# Altium schematic symbol library Resistors.SchLib: 154 symbols
Pins are listed as number, name and electrical type; pins without a type are passive.

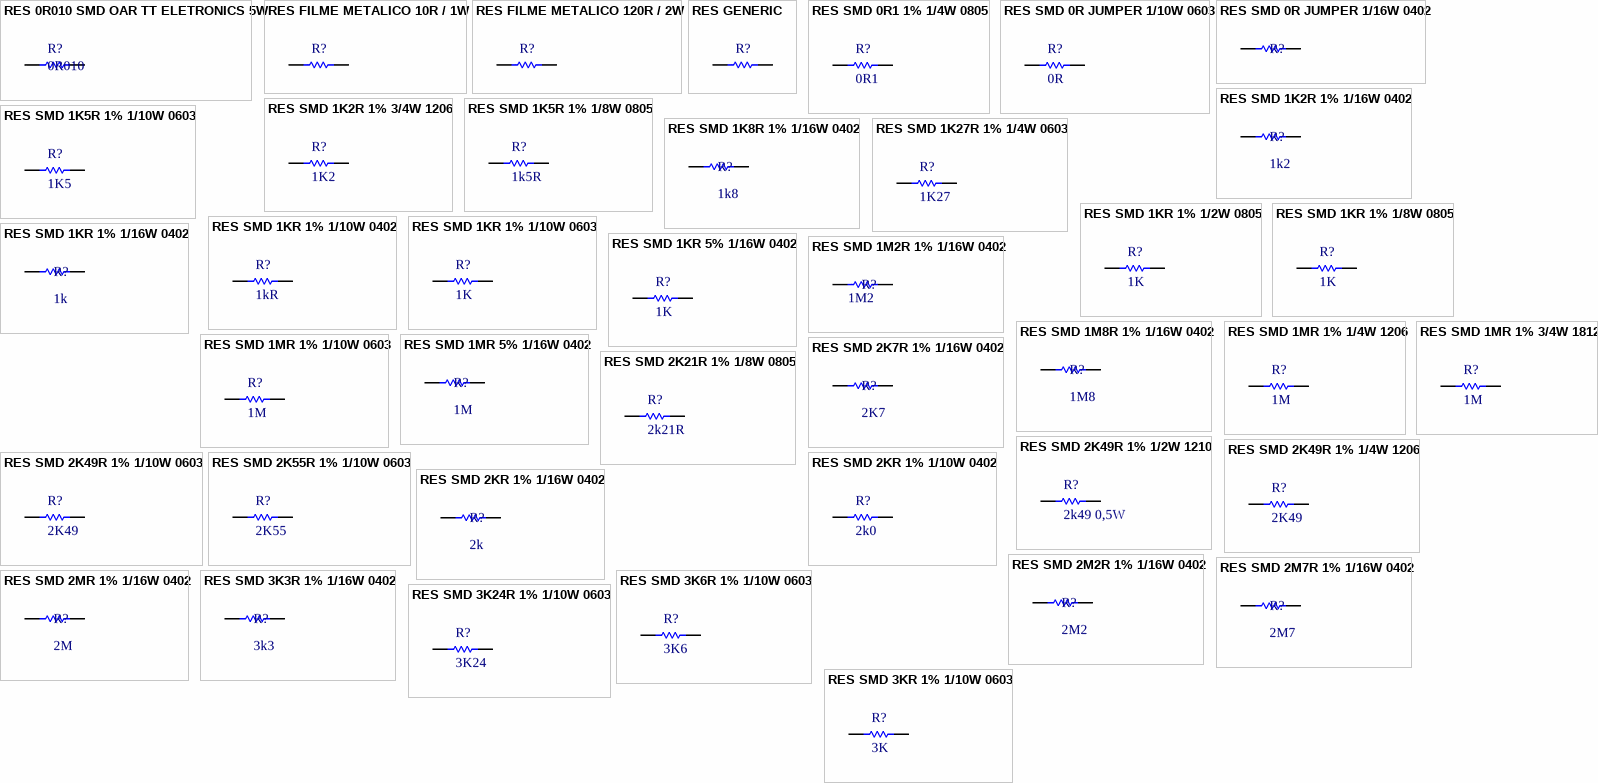
[diagram p0: symbols RES 0R010 SMD OAR TT ELETRONICS 5W to RES SMD 3KR 1% 1/10W 0603]

## RES 0R010 SMD OAR TT ELETRONICS 5W
designator R?, comment 0R010
OAR 0R010 SMD 5W 1% 40PPM SENSE RESISTOR; TT ELETRONICS: OARS-XP-R010-F-LF; MOUSER LINK: http://br.mouser.com/ProductDetail/IRC/OARSXPR010FLF/?qs=sGAEpiMZZMvrW%2ffo9sIoW%252bIzhbw9FH4L
footprint OARSXP (SMD SENSE RESISTOR TT ELETRONICS SERIES)
pins: 1, 2

## RES FILME METALICO 10R / 1W
designator R?  (value not drawn)
footprint RES-DO-41 (DO-41)
pins: 1, 2

## RES FILME METALICO 120R / 2W
designator R?  (value not drawn)
footprint RES-DO-41 (DO-41)
pins: 1, 2

## RES GENERIC
designator R?  (value not drawn)
footprint RES-DO-41 (DO-41)
pins: 1, 2

## RES SMD 0R1 1% 1/4W 0805
designator R?, comment 0R1
100 mOhms ±1% 0.25W, 1/4W Chip Resistor 0805 (2012 Metric) Automotive AEC-Q200, Current Sense Thick Film; Manufacturer 1: Panasonic Electronic Components; Manufacturer Part Number 1: ERJ-L06KF10CV; VALUE: 0R10 1%
footprint SMD_0805 (Generic 0805 SMD footprint)
pins: 1, 2

## RES SMD 0R JUMPER 1/10W 0603
designator R?, comment 0R
0 Ohms Jumper 0.1W, 1/10W Chip Resistor 0603 (1608 Metric) Automotive AEC-Q200 Thick Film; Manufacturer Part Number 1: ERJ-3GEY0R00V; Manufacturer 1: Panasonic Electronic Components
footprint SMD_0603 (General SMD 0603 footprint)
pins: 1, 2

## RES SMD 0R JUMPER 1/16W 0402
designator R?, comment 0R  (value not drawn)
0 Ohms Jumper 0.063W, 1/16W Chip Resistor 0402 (1005 Metric) Moisture Resistant Thick Film; Part Number 1: RC0402JR-070RL; Manufacturer 1: Yageo; Value: 0R
footprint SMD_0402
pins: 1, 2

## RES SMD 1K2R 1% 1/16W 0402
designator R?, comment 1k2
1.2 kOhms ±1% 0.063W, 1/16W Chip Resistor 0402 (1005 Metric) Moisture Resistant Thick Film; Part Number 1: RC0402FR-071K2L; Manufacturer 1: Yageo; Value: 1k2
footprint SMD_0402
pins: 1, 2

## RES SMD 1K2R 1% 3/4W 1206
designator R?, comment 1K2
1.2 kOhms ±1% 0.75W, 3/4W Chip Resistor 1206 (3216 Metric) Automotive AEC-Q200, Pulse Withstanding Thick Film; Manufacturer 1: Vishay Dale; Manufacturer Part Number 1: CRCW12061K20FKEAHP
footprint SMD_1210 (General SMD 1210 footprint)
pins: 1, 2

## RES SMD 1K5R 1% 1/8W 0805
designator R?, comment 1k5R
1.5 kOhms ±1% 0.125W, 1/8W Chip Resistor 0805 (2012 Metric) Automotive AEC-Q200 Thick Film; Manufacturer 1: Stackpole Electronics Inc; Manufacturer Part Number 1: RMCF0805FT1K50
footprint SMD_0805 (Generic 0805 SMD footprint)
pins: 1, 2

## RES SMD 1K5R 1% 1/10W 0603
designator R?, comment 1K5
1.5 kOhms ±1% 0.1W, 1/10W Chip Resistor 0603 (1608 Metric)  Thick Film; Part Number 1: CRCW06031K50FKEAC; Manufacturer 1: Vishay Dale
footprint SMD_0603 (General SMD 0603 footprint)
pins: 1, 2

## RES SMD 1K8R 1% 1/16W 0402
designator R?, comment 1k8
1.8 kOhms ±1% 0.063W, 1/16W Chip Resistor 0402 (1005 Metric) Moisture Resistant Thick Film; Part Number 1: RC0402FR-071K8L; Manufacturer 1: Yageo; Value: 1k8
footprint SMD_0402
pins: 1, 2

## RES SMD 1K27R 1% 1/4W 0603
designator R?, comment 1K27
1.27 kOhms ±1% 0.25W, 1/4W Chip Resistor 0603 (1608 Metric) Automotive AEC-Q200, Pulse Withstanding Thick Film; Manufacturer 1: Vishay Dale; Part Number 1: CRCW06031K27FKEAHP
footprint SMD_0603 (General SMD 0603 footprint)
pins: 1, 2

## RES SMD 1KR 1% 1/2W 0805
designator R?, comment 1K
1 kOhms ±1% 0.5W, 1/2W Chip Resistor 0805 (2012 Metric) Automotive AEC-Q200, Pulse Withstanding Thick Film; Manufacturer 1: Panasonic Electronic Components; Part Number 1: ERJ-P6WF1001V; VALUE: 1K
footprint SMD_0805 (Generic 0805 SMD footprint)
pins: 1, 2

## RES SMD 1KR 1% 1/8W 0805
designator R?, comment 1K
1 kOhms ±1% 0.125W, 1/8W Chip Resistor 0805 (2012 Metric)  Thick Film; Part Number 1: CRCW08051K00FKEAC; Manufacturer 1: Vishay Dale
footprint SMD_0805 (Generic 0805 SMD footprint)
pins: 1, 2

## RES SMD 1KR 1% 1/10W 0402
designator R?, comment 1kR
1k Ohm ±5% 0.063W, 1/16W Chip Resistor 0402 (1005 Metric) Thick Film; Manufacturer 1: Panasonic Electronic Components; Part Number 1: ERJ-2RKF1001X; VALUE: 1k; Supplier 1: Digi-Key; Supplier 2: Digi-Key; Supplier 3: Digi-Key; Supplier 4: Future Electronics; Supplier 5: Future Electronics; Supplier 6: Farnell; Supplier 7: Farnell; Supplier 8: Farnell; Supplier 9: Mouser; Supplier 10: Arrow; Supplier Part Number 9: 667-ERJ-2RKF1001X; Supplier Part Number 8: 2982313; Supplier Part Number 7: 2302638; Supplier Part Number 6: 2397185; Supplier Part Number 5: ERJ-2RKF1001X-CUTT; Supplier Part Number 4: ERJ-2RKF1001X-REEL; Supplier Part Number 3: P1.00KLTR-ND; Supplier Part Number 2: P1.00KLDKR-ND; Supplier Part Number 10: ERJ-2RKF1001X; Supplier Part Number 1: P1.00KLCT-ND
footprint SMD_0402
pins: 1, 2

## RES SMD 1KR 1% 1/10W 0603
designator R?, comment 1K
1 kOhms ±1% 0.1W, 1/10W Chip Resistor 0603 (1608 Metric) Automotive AEC-Q200 Thick Film; Manufacturer 1: Panasonic Electronic Components; Part Number 1: ERJ-3EKF1001V; VALUE: 1K 1%
footprint SMD_0603 (General SMD 0603 footprint)
pins: 1, 2

## RES SMD 1KR 1% 1/16W 0402
designator R?, comment 1k
1 kOhms ±1% 0.063W, 1/16W Chip Resistor 0402 (1005 Metric) Moisture Resistant Thick Film; Part Number 1: RC0402FR-071KL; Manufacturer 1: Yageo; Value: 1k
footprint SMD_0402
pins: 1, 2

## RES SMD 1KR 5% 1/16W 0402
designator R?, comment 1K
1k Ohm ±5% 0.063W, 1/16W Chip Resistor 0402 (1005 Metric) Thick Film; Part Number 1: RC0402JR-071KL; Manufacturer 1: Yageo
footprint SMD_0402
pins: 1, 2

## RES SMD 1M2R 1% 1/16W 0402
designator R?, comment 1M2
1.2 MOhms ±1% 0.063W, 1/16W Chip Resistor 0402 (1005 Metric) Automotive AEC-Q200 Thick Film; Part Number 1: RMCF0402FT1M20; Manufacturer 1: Stackpole Electronics Inc; Value: 1M2
footprint SMD_0402
pins: 1, 2

## RES SMD 1M8R 1% 1/16W 0402
designator R?, comment 1M8
1.8 MOhms ±1% 0.063W, 1/16W Chip Resistor 0402 (1005 Metric) Moisture Resistant Thick Film; Part Number 1: RMCF0402FT1M80; Manufacturer 1: Samsung Electro-Mechanics; Value: 1M8
footprint SMD_0402
pins: 1, 2

## RES SMD 1MR 1% 1/4W 1206
designator R?, comment 1M
1 MOhms ±1% 0.25W, 1/4W Chip Resistor 1206 (3216 Metric) Automotive AEC-Q200 Thick Film; Manufacturer 1: Panasonic Electronic Components; Part Number 1: ERJ-8ENF1004V; VALUE: 1M 1%
footprint SMD_1206 (General SMD 1206 footprint)
pins: 1, 2

## RES SMD 1MR 1% 1/10W 0603
designator R?, comment 1M
1 MOhms ±1% 0.1W, 1/10W Chip Resistor 0603 (1608 Metric) Automotive AEC-Q200 Thick Film; Manufacturer 1: Panasonic Electronic Components; Part Number 1: ERJ-3EKF1004V; VALUE: 1M
footprint SMD_0603 (General SMD 0603 footprint)
pins: 1, 2

## RES SMD 1MR 1% 3/4W 1812
designator R?, comment 1M
1 MOhms ±0.5% 0.75W, 3/4W Chip Resistor 1812 (4532 Metric) Anti-Sulfur, Automotive AEC-Q200 Thick Film; Manufacturer 1: Panasonic Electronic Components; Part Number 1: ERJ-U12D1004U; VALUE: 1M 1%
footprint SMD_1812 (General SMD 1812 footprint)
pins: 1, 2

## RES SMD 1MR 5% 1/16W 0402
designator R?, comment 1M
1 MOhms ±5% 0.063W, 1/16W Chip Resistor 0402 (1005 Metric) Moisture Resistant Thick Film; Part Number 1: RC0402JR-071ML; Manufacturer 1: Samsung Electro-Mechanics; Value: 1M
footprint SMD_0402
pins: 1, 2

## RES SMD 2K7R 1% 1/16W 0402
designator R?, comment 2K7
2.7 kOhms ±1% 0.063W, 1/16W Chip Resistor 0402 (1005 Metric) Moisture Resistant Thick Film; Part Number 1: RC0402FR-072K7L; Manufacturer 1: Yageo; Value: 2K7
footprint SMD_0402
pins: 1, 2

## RES SMD 2K21R 1% 1/8W 0805
designator R?, comment 2k21R
2.21k Ohm ±1% 0.125W, 1/8W Chip Resistor 0805 (2012 Metric) Moisture Resistant Thick Film; Manufacturer 1: Stackpole Electronics Inc; Part Number 1: RMCF0805FT2K21
footprint SMD_0805 (Generic 0805 SMD footprint)
pins: 1, 2

## RES SMD 2K49R 1% 1/2W 1210
designator R?, comment 2k49 0,5W
2.49 kOhms ±1% 0.5W, 1/2W Chip Resistor 1210 (3225 Metric) Automotive AEC-Q200, Pulse Withstanding Thick Film; Manufacturer 1: Panasonic Electronic Components; Part Number 1: ERJ-P14F2491U
footprint SMD_1210 (General SMD 1210 footprint)
pins: 1, 2

## RES SMD 2K49R 1% 1/4W 1206
designator R?, comment 2K49
2.49 kOhms ±1% 0.25W, 1/4W Chip Resistor 1206 (3216 Metric) Automotive AEC-Q200, High Voltage Thick Film; Manufacturer 1: Rohm Semiconductor; Part Number 1: KTR18EZPF2491; VALUE: 2K49
pins: 1, 2

## RES SMD 2K49R 1% 1/10W 0603
designator R?, comment 2K49
2.49 kOhms ±1% 0.1W, 1/10W Chip Resistor 0603 (1608 Metric)  Thick Film; Manufacturer 1: Vishay Dale; Part Number 1: CRCW06032K49FKEAC; VALUE: 2K49 1%
footprint SMD_0603 (General SMD 0603 footprint)
pins: 1, 2

## RES SMD 2K55R 1% 1/10W 0603
designator R?, comment 2K55
2.55 kOhms ±1% 0.1W, 1/10W Chip Resistor 0603 (1608 Metric) Automotive AEC-Q200 Thick Film; Manufacturer 1: Stackpole Electronics Inc; Part Number 1: RMCF0603FT2K55; VALUE: 2K55 1%
footprint SMD_0603 (General SMD 0603 footprint)
pins: 1, 2

## RES SMD 2KR 1% 1/10W 0402
designator R?, comment 2k0
2 kOhms ±1% 0.1W, 1/10W Chip Resistor 0402 (1005 Metric) Automotive AEC-Q200 Thick Film; Manufacturer 1: Panasonic Electronic Components; Part Number 1: ERJ-2RKF2001X; VALUE: 2k0; Supplier 1: Digi-Key; Supplier 2: RSComponents; Supplier 3: Digi-Key; Supplier 4: Digi-Key; Supplier 5: Digi-Key; Supplier 6: RSComponents; Supplier 7: Digi-Key; Supplier 8: Digi-Key; Supplier 9: Digi-Key; Supplier Part Number 1: P2.00KLCT-ND; Supplier Part Number 2: 7325365; Supplier Part Number 3: P2.00KLDKR-ND; Supplier Part Number 4: 749-1560-1-ND; Supplier Part Number 5: P2.00KLTR-ND; Supplier Part Number 6: 732-5365; Supplier Part Number 7: 749-1560-2-ND; Supplier Part Number 8: ERJ-S02F2001X-ND; Supplier Part Number 9: 749-1560-6-ND
footprint SMD_0402
pins: 1, 2

## RES SMD 2KR 1% 1/16W 0402
designator R?, comment 2k
2 kOhms ±1% 0.063W, 1/16W Chip Resistor 0402 (1005 Metric) Moisture Resistant Thick Film; Part Number 1: RC1005F202CS; Manufacturer 1: Samsung Electro-Mechanics; Value: 2k
footprint SMD_0402
pins: 1, 2

## RES SMD 2M2R 1% 1/16W 0402
designator R?, comment 2M2
2.2 MOhms ±1% 0.063W, 1/16W Chip Resistor 0402 (1005 Metric) Moisture Resistant Thick Film; Part Number 1: RC1005F225CS; Manufacturer 1: Samsung Electro-Mechanics; Value: 2M2
footprint SMD_0402
pins: 1, 2

## RES SMD 2M7R 1% 1/16W 0402
designator R?, comment 2M7
2.7 MOhms ±1% 0.063W, 1/16W Chip Resistor 0402 (1005 Metric) Automotive AEC-Q200 Thick Film; Part Number 1: RMCF0402FT2M70; Manufacturer 1: Stackpole Electronics Inc; Value: 2M7
footprint SMD_0402
pins: 1, 2

## RES SMD 2MR 1% 1/16W 0402
designator R?, comment 2M
2 MOhms ±1% 0.063W, 1/16W Chip Resistor 0402 (1005 Metric)  Thick Film; Part Number 1: CRCW04022M00FKEDC; Manufacturer 1: Vishay Dale; Value: 2M
footprint SMD_0402
pins: 1, 2

## RES SMD 3K3R 1% 1/16W 0402
designator R?, comment 3k3
3.3 kOhms ±1% 0.063W, 1/16W Chip Resistor 0402 (1005 Metric) Moisture Resistant Thick Film; Part Number 1: RC0402FR-073K3L; Manufacturer 1: Yageo; Value: 3k3
footprint SMD_0402
pins: 1, 2

## RES SMD 3K6R 1% 1/10W 0603
designator R?, comment 3K6
3.6 kOhms ±1% 0.1W, 1/10W Chip Resistor 0603 (1608 Metric) Automotive AEC-Q200 Thick Film; Part Number 1: ERJ-3EKF3601V; Manufacturer 1: Panasonic Electronic Components
footprint SMD_0603 (General SMD 0603 footprint)
pins: 1, 2

## RES SMD 3K24R 1% 1/10W 0603
designator R?, comment 3K24
3.24 kOhms ±1% 0.1W, 1/10W Chip Resistor 0603 (1608 Metric) Automotive AEC-Q200 Thick Film; Manufacturer 1: Vishay Dale; Part Number 1: CRCW06033K24FKEA
footprint SMD_0603 (General SMD 0603 footprint)
pins: 1, 2

## RES SMD 3KR 1% 1/10W 0603
designator R?, comment 3K
3 kOhms ±1% 0.1W, 1/10W Chip Resistor 0603 (1608 Metric)  Thick Film; Part Number 1: CRCW06033K00FKEAC; Manufacturer 1: Vishay Dale; VALUE: 3K0R 1%
footprint SMD_0603 (General SMD 0603 footprint)
pins: 1, 2

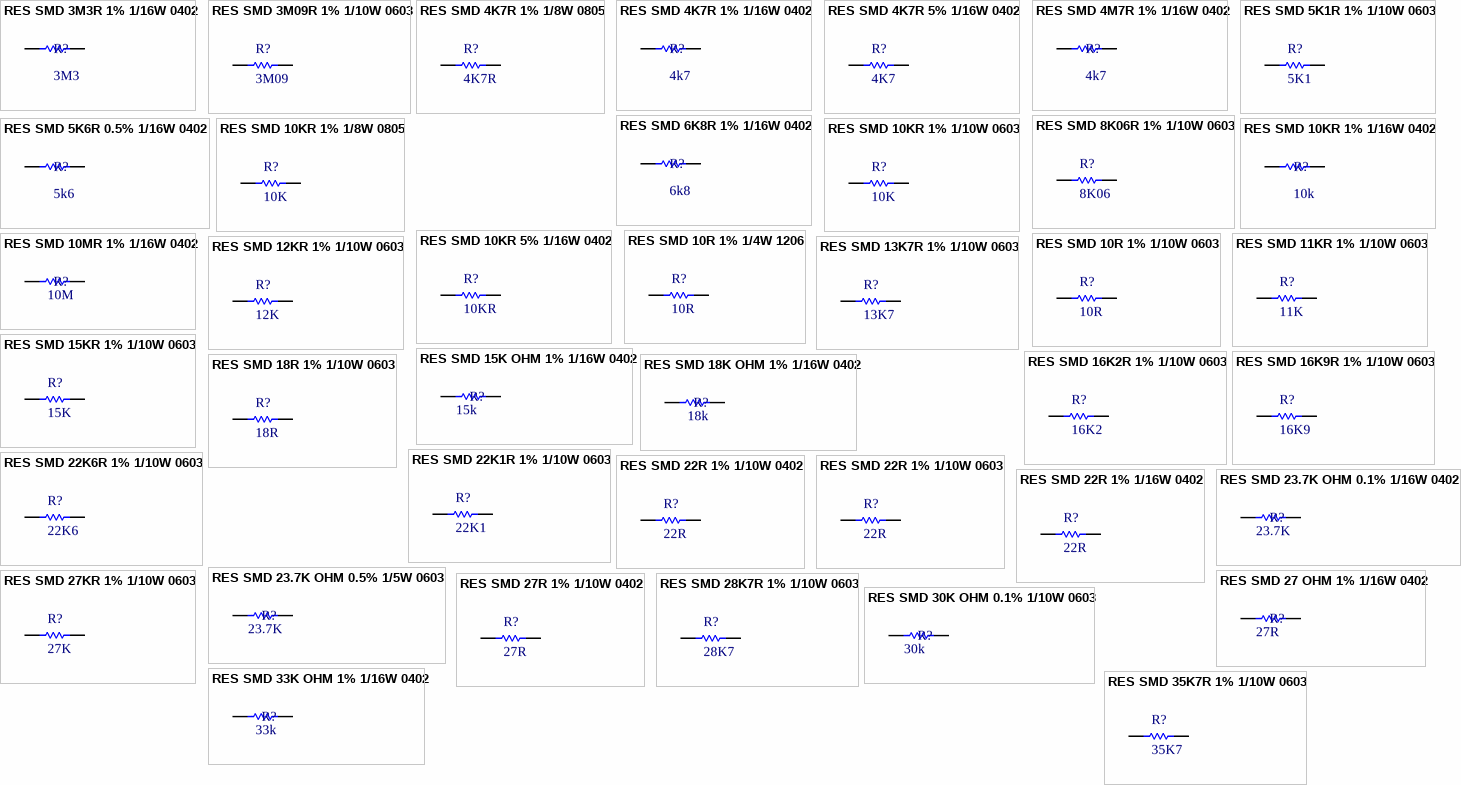
[diagram p1: symbols RES SMD 3M3R 1% 1/16W 0402 to RES SMD 35K7R 1% 1/10W 0603]

## RES SMD 3M3R 1% 1/16W 0402
designator R?, comment 3M3
3.3 MOhms ±1% 0.063W, 1/16W Chip Resistor 0402 (1005 Metric) Moisture Resistant Thick Film; Part Number 1: RC0402FR-073M3L; Manufacturer 1: Yageo; Value: 3M3
footprint SMD_0402
pins: 1, 2

## RES SMD 3M09R 1% 1/10W 0603
designator R?, comment 3M09
3.09 MOhms ±1% 0.1W, 1/10W Chip Resistor 0603 (1608 Metric) Automotive AEC-Q200 Thick Film; Part Number 1: RMCF0603FT3M09; Manufacturer 1: Stackpole Electronics Inc; VALUE: 3.09M
footprint SMD_0603 (General SMD 0603 footprint)
pins: 1, 2

## RES SMD 4K7R 1% 1/8W 0805
designator R?, comment 4K7R
4.7 kOhms ±1% 0.125W, 1/8W Chip Resistor 0805 (2012 Metric) Moisture Resistant Thick Film; Manufacturer 1: Yageo; Part Number 1: RC0805FR-074K7P
footprint SMD_0805 (Generic 0805 SMD footprint)
pins: 1, 2

## RES SMD 4K7R 1% 1/16W 0402
designator R?, comment 4k7
4.7 kOhms ±1% 0.063W, 1/16W Chip Resistor 0402 (1005 Metric) Moisture Resistant Thick Film; Part Number 1: RC1005F472CS; Manufacturer 1: Samsung Electro-Mechanics; Value: 4k7
footprint SMD_0402
pins: 1, 2

## RES SMD 4K7R 5% 1/16W 0402
designator R?, comment 4K7
4.7 kOhms ±5% 0.063W, 1/16W Chip Resistor 0402 (1005 Metric) Moisture Resistant Thick Film; Manufacturer 1: Yageo; Part Number 1: RC0402JR-074K7L
footprint SMD_0402
pins: 1, 2

## RES SMD 4M7R 1% 1/16W 0402
designator R?, comment 4k7
4.7 MOhms ±1% 0.063W, 1/16W Chip Resistor 0402 (1005 Metric) Moisture Resistant Thick Film; Part Number 1: RC1005F475CS; Manufacturer 1: Samsung Electro-Mechanics; Value: 4k7
footprint SMD_0402
pins: 1, 2

## RES SMD 5K1R 1% 1/10W 0603
designator R?, comment 5K1
5.1 kOhms ±1% 0.1W, 1/10W Chip Resistor 0603 (1608 Metric) Automotive AEC-Q200 Thick Film; Manufacturer 1: Stackpole Electronics Inc; Part Number 1: RMCF0603FT5K10; VALUE: 5k1
footprint SMD_0603 (General SMD 0603 footprint)
pins: 1, 2

## RES SMD 5K6R 0.5% 1/16W 0402
designator R?, comment 5k6
5.6 kOhms ±0.5% 0.063W, 1/16W Chip Resistor 0402 (1005 Metric) Automotive AEC-Q200 Thin Film; Part Number 1: ERA-2AED562X; Manufacturer 1: Panasonic Electronic Components; Value: 5k6
footprint SMD_0402
pins: 1, 2

## RES SMD 6K8R 1% 1/16W 0402
designator R?, comment 6k8
6.8 kOhms ±1% 0.063W, 1/16W Chip Resistor 0402 (1005 Metric) Moisture Resistant Thick Film; Part Number 1: RC0402FR-076K8L; Manufacturer 1: Yageo; Value: 6k8
footprint SMD_0402
pins: 1, 2

## RES SMD 8K06R 1% 1/10W 0603
designator R?, comment 8K06
8.06 kOhms ±1% 0.1W, 1/10W Chip Resistor 0603 (1608 Metric) Automotive AEC-Q200 Thick Film; Part Number 1: CRCW06038K06FKEA; Manufacturer 1: Vishay Dale; VALUE: 8K06 1%
footprint SMD_0603 (General SMD 0603 footprint)
pins: 1, 2

## RES SMD 10KR 1% 1/8W 0805
designator R?, comment 10K
10 kOhms ±1% 0.125W, 1/8W Chip Resistor 0805 (2012 Metric) Automotive AEC-Q200 Thick Film; Manufacturer Part Number 1: CRCW080510K0FKEA; Manufacturer 1: Vishay Dale
footprint SMD_0805 (Generic 0805 SMD footprint)
pins: 1, 2

## RES SMD 10KR 1% 1/10W 0603
designator R?, comment 10K
10 kOhms ±1% 0.1W, 1/10W Chip Resistor 0603 (1608 Metric) Automotive AEC-Q200 Thick Film; Part Number 1: ERJ-3EKF1002V; Manufacturer 1: Panasonic Electronic Components; VALUE: 10K
footprint SMD_0603 (General SMD 0603 footprint)
pins: 1, 2

## RES SMD 10KR 1% 1/16W 0402
designator R?, comment 10k
10 kOhms ±1% 0.063W, 1/16W Chip Resistor 0402 (1005 Metric) Automotive AEC-Q200 Thick Film; Part Number 1: RMCF0402FT10K0; Manufacturer 1: Stackpole Electronics Inc; Value: 10k
footprint SMD_0402
pins: 1, 2

## RES SMD 10KR 5% 1/16W 0402
designator R?, comment 10KR
10 kOhms ±5% 0.063W, 1/16W Chip Resistor 0402 (1005 Metric) Moisture Resistant Thick Film; Manufacturer 1: Yageo; Part Number 1: RC0402JR-0710KL; VALUE: 10K
footprint SMD_0402
pins: 1, 2

## RES SMD 10MR 1% 1/16W 0402
designator R?, comment 10M
10 MOhms ±1% 0.063W, 1/16W Chip Resistor 0402 (1005 Metric) Moisture Resistant Thick Film; Part Number 1: RC0402FR-0710ML; Manufacturer 1: Yageo; Value: 10M
footprint SMD_0402
pins: 1, 2

## RES SMD 10R 1% 1/4W 1206
designator R?, comment 10R
10 Ohms ±1% 0.25W, 1/4W Chip Resistor 1206 (3216 Metric) Automotive AEC-Q200 Thick Film; Manufacturer 1: Stackpole Electronics Inc; Manufacturer Part Number 1: RMCF1206FT10R0; VALUE: 10R
footprint SMD_1206 (General SMD 1206 footprint)
pins: 1, 2

## RES SMD 10R 1% 1/10W 0603
designator R?, comment 10R
10 Ohms ±1% 0.1W, 1/10W Chip Resistor 0603 (1608 Metric) Automotive AEC-Q200 Thick Film; Manufacturer 1: Panasonic Electronic Components; Manufacturer Part Number 1: ERJ-3EKF10R0V; VALUE: 10R 1%
footprint SMD_0603 (General SMD 0603 footprint)
pins: 1, 2

## RES SMD 11KR 1% 1/10W 0603
designator R?, comment 11K
11 kOhms ±1% 0.1W, 1/10W Chip Resistor 0603 (1608 Metric) Automotive AEC-Q200 Thick Film; Manufacturer 1: Vishay Dale; Manufacturer Part Number 1: CRCW060311K0FKEA
footprint SMD_0603 (General SMD 0603 footprint)
pins: 1, 2

## RES SMD 12KR 1% 1/10W 0603
designator R?, comment 12K
12 kOhms ±1% 0.1W, 1/10W Chip Resistor 0603 (1608 Metric) Automotive AEC-Q200 Thick Film; Manufacturer Part Number 1: ERJ-3EKF1202V; Manufacturer 1: Panasonic Electronic Components
footprint SMD_0603 (General SMD 0603 footprint)
pins: 1, 2

## RES SMD 13K7R 1% 1/10W 0603
designator R?, comment 13K7
13.7 kOhms ±1% 0.1W, 1/10W Chip Resistor 0603 (1608 Metric) Automotive AEC-Q200 Thick Film; Manufacturer 1: Stackpole Electronics Inc; Manufacturer Part Number 1: RMCF0603FT13K7
footprint SMD_0603 (General SMD 0603 footprint)
pins: 1, 2

## RES SMD 15K OHM 1% 1/16W 0402
designator R?, comment value 15k  (hidden comment: 15kR)
PartNumber1: RC0402FR-0715KL
footprint SMD_0402
pins: 1, 2

## RES SMD 15KR 1% 1/10W 0603
designator R?, comment 15K
15 kOhms ±1% 0.1W, 1/10W Chip Resistor 0603 (1608 Metric) Automotive AEC-Q200 Thick Film; Manufacturer 1: Panasonic Electronic Components; Manufacturer Part Number 1: ERJ-3EKF1502V
footprint SMD_0603 (General SMD 0603 footprint)
pins: 1, 2

## RES SMD 16K2R 1% 1/10W 0603
designator R?, comment 16K2
16.2 kOhms ±1% 0.1W, 1/10W Chip Resistor 0603 (1608 Metric) Automotive AEC-Q200 Thick Film; Manufacturer 1: Vishay Dale; Manufacturer Part Number 1: CRCW060316K2FKEA; VALUE: 16K2 1%
footprint SMD_0603 (General SMD 0603 footprint)
pins: 1, 2

## RES SMD 16K9R 1% 1/10W 0603
designator R?, comment 16K9
16.9 kOhms ±1% 0.1W, 1/10W Chip Resistor 0603 (1608 Metric) Automotive AEC-Q200 Thick Film; Manufacturer Part Number 1: ERJ-3EKF1692V; Manufacturer 1: Panasonic Electronic Components; VALUE: 16K9 1%
footprint SMD_0603 (General SMD 0603 footprint)
pins: 1, 2

## RES SMD 18K OHM 1% 1/16W 0402
designator R?, comment 18k
PartNumber1: RC0402FR-0718KL; Value: 18k
footprint SMD_0402
pins: 1, 2

## RES SMD 18R 1% 1/10W 0603
designator R?, comment 18R
18 Ohms ±1% 0.1W, 1/10W Chip Resistor 0603 (1608 Metric) Moisture Resistant Thick Film; Manufacturer Part Number 1: RC0603FR-0718RL; Manufacturer 1: Yageo
footprint SMD_0603 (General SMD 0603 footprint)
pins: 1, 2

## RES SMD 22K1R 1% 1/10W 0603
designator R?, comment 22K1
22.1 kOhms ±1% 0.1W, 1/10W Chip Resistor 0603 (1608 Metric) Automotive AEC-Q200 Thick Film; Manufacturer Part Number 1: CRCW060322K1FKEA; Manufacturer 1: Vishay Dale
footprint SMD_0603 (General SMD 0603 footprint)
pins: 1, 2

## RES SMD 22K6R 1% 1/10W 0603
designator R?, comment 22K6
22.6 kOhms ±1% 0.1W, 1/10W Chip Resistor 0603 (1608 Metric) Automotive AEC-Q200 Thick Film; Manufacturer 1: Vishay Dale; VISHAY: CRCW060322K6FKEA; Manufacturer Part Number 1: CRCW060322K6FKEA
footprint SMD_0603 (General SMD 0603 footprint)
pins: 1, 2

## RES SMD 22R 1% 1/10W 0402
designator R?, comment 22R
22 Ohm ±1% 0.1W, 1/10W Chip Resistor 0402 (1005 Metric) Automotive AEC-Q200 Thick Film; Manufacturer 1: Panasonic Electronic Components; Manufacturer Part Number 1: ERJ-2RKF22R0X
footprint SMD_0402
pins: 1, 2

## RES SMD 22R 1% 1/10W 0603
designator R?, comment 22R
22 Ohms ±1% 0.1W, 1/10W Chip Resistor 0603 (1608 Metric) Automotive AEC-Q200 Thick Film; Manufacturer Part Number 1: ERJ-3EKF22R0V; Manufacturer 1: Panasonic Electronic Components
footprint SMD_0603 (General SMD 0603 footprint)
pins: 1, 2

## RES SMD 22R 1% 1/16W 0402
designator R?, comment 22R
22 Ohm ±1% 0.063W, 1/16W Chip Resistor 0402 (1005 Metric) Moisture Resistant Thick Film; Manufacturer 1: Bourns Inc.; Manufacturer Part Number 1: CR0402-FX-22R0GLF; VALUE: 22R
footprint SMD_0402
pins: 1, 2

## RES SMD 23.7K OHM 0.1% 1/16W 0402
designator R?, comment 23.7K
23.7 kOhms ±0.1% 0.063W, 1/16W Chip Resistor 0402 (1005 Metric)  Thin Film; PartNumber1: RN73C1E23K7BTD; Value: 23.7K
footprint SMD_0402
pins: 1, 2

## RES SMD 23.7K OHM 0.5% 1/5W 0603
designator R?, comment 23.7K
23.7 kOhms ±0.5% 0.2W, 1/5W Chip Resistor 0603 (1608 Metric) Automotive AEC-Q200, Pulse Withstanding Thick Film; PartNumber1: ERJ-PB3D2372V; Value: 23.7K
footprint smd_0603 (General SMD 0603 footprint)
pins: 1, 2

## RES SMD 27 OHM 1% 1/16W 0402
designator R?  value 27R
PartNumber1: RC0402FR-0727RL
footprint SMD_0402
pins: 1, 2

## RES SMD 27KR 1% 1/10W 0603
designator R?, comment 27K
27 kOhms ±1% 0.1W, 1/10W Chip Resistor 0603 (1608 Metric) Automotive AEC-Q200 Thick Film; Manufacturer Part Number 1: ERJ-3EKF2702V; Manufacturer 1: Panasonic Electronic Components; VALUE: 27K 1%
footprint SMD_0603 (General SMD 0603 footprint)
pins: 1, 2

## RES SMD 27R 1% 1/10W 0402
designator R?, comment 27R
27 Ohm ±1% 0.1W, 1/10W Chip Resistor 0402 (1005 Metric) Automotive AEC-Q200 Thick Film; Manufacturer 1: Panasonic Electronic Components; Manufacturer Part Number 1: ERJ-2RKF27R0X; VALUE: 27R
footprint SMD_0402
pins: 1, 2

## RES SMD 28K7R 1% 1/10W 0603
designator R?, comment 28K7
28.7 kOhms ±1% 0.1W, 1/10W Chip Resistor 0603 (1608 Metric) Automotive AEC-Q200 Thick Film; Manufacturer 1: Vishay Dale; Manufacturer Part Number 1: CRCW060328K7FKEA
footprint SMD_0603 (General SMD 0603 footprint)
pins: 1, 2

## RES SMD 30K OHM 0.1% 1/10W 0603
designator R?, comment value 30k  (hidden comment: 30kR)
PartNumber1: ERA-3AEB303V
footprint smd_0603 (General SMD 0603 footprint)
pins: 1, 2

## RES SMD 33K OHM 1% 1/16W 0402
designator R?, comment 33k
PartNumber1: RC0402FR-0733KL; Value: 33k
footprint SMD_0402
pins: 1, 2

## RES SMD 35K7R 1% 1/10W 0603
designator R?, comment 35K7
35.7 kOhms ±1% 0.1W, 1/10W Chip Resistor 0603 (1608 Metric) Automotive AEC-Q200 Thick Film; Manufacturer Part Number 1: ERJ-3EKF3572V; Manufacturer 1: Panasonic Electronic Components; VALUE: 35K7 1%
footprint SMD_0603 (General SMD 0603 footprint)
pins: 1, 2

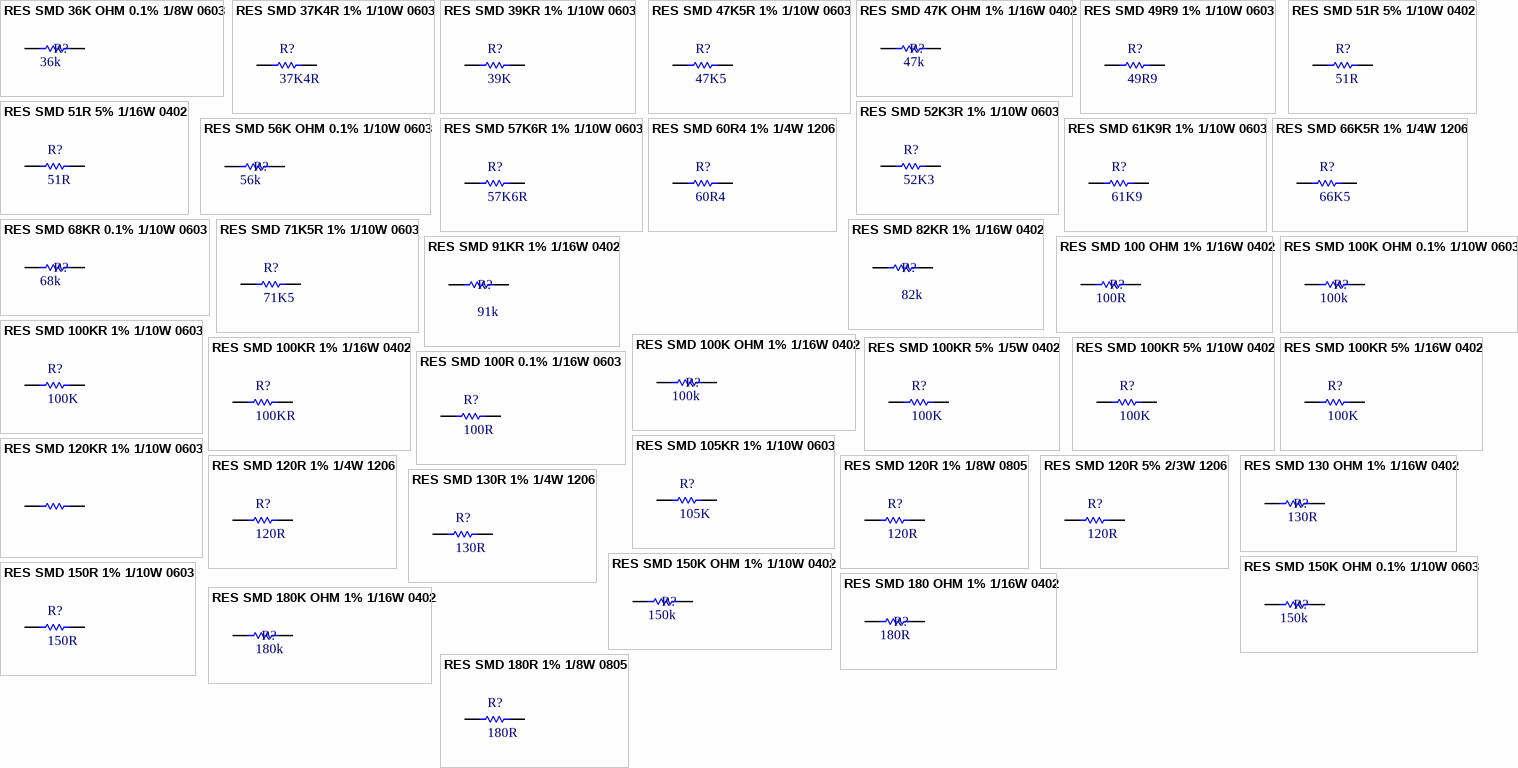
[diagram p2: symbols RES SMD 36K OHM 0.1% 1/8W 0603 to RES SMD 180R 1% 1/8W 0805]

## RES SMD 36K OHM 0.1% 1/8W 0603
designator R?, comment value 36k  (hidden comment: 36kR)
PartNumber1: TNPW060336K0BEEA
footprint SMD_0603 (General SMD 0603 footprint)
pins: 1, 2

## RES SMD 37K4R 1% 1/10W 0603
designator R?, comment 37K4R
37.4 kOhms ±1% 0.1W, 1/10W Chip Resistor 0603 (1608 Metric) Automotive AEC-Q200 Thick Film; Manufacturer 1: Panasonic Electronic Components; Manufacturer Part Number 1: ERJ-3EKF3742V; VALUE: 37K4 1%
footprint SMD_0603 (General SMD 0603 footprint)
pins: 1, 2

## RES SMD 39KR 1% 1/10W 0603
designator R?, comment 39K
39 kOhms ±1% 0.1W, 1/10W Chip Resistor 0603 (1608 Metric) Automotive AEC-Q200 Thick Film; Manufacturer 1: Stackpole Electronics Inc; Manufacturer Part Number 1: RMCF0603FT39K0; VALUE: 39K 1%
footprint SMD_0603 (General SMD 0603 footprint)
pins: 1, 2

## RES SMD 47K5R 1% 1/10W 0603
designator R?, comment 47K5
47.5 kOhms ±1% 0.1W, 1/10W Chip Resistor 0603 (1608 Metric)  Thick Film; Manufacturer 1: Vishay Dale; Manufacturer Part Number 1: CRCW060347K5FKEAC
footprint SMD_0603 (General SMD 0603 footprint)
pins: 1, 2

## RES SMD 47K OHM 1% 1/16W 0402
designator R?, comment 47k
PartNumber1: RC0402FR-0747KL; Value: 47k
footprint SMD_0402
pins: 1, 2

## RES SMD 49R9 1% 1/10W 0603
designator R?, comment 49R9
49.9 Ohms ±1% 0.1W, 1/10W Chip Resistor 0603 (1608 Metric) Automotive AEC-Q200 Thick Film; Manufacturer 1: Panasonic Electronic Components; Manufacturer Part Number 1: ERJ-3EKF49R9V; VALUE: 49K9 1%
footprint SMD_0603 (General SMD 0603 footprint)
pins: 1, 2

## RES SMD 51R 5% 1/10W 0402
designator R?, comment 51R
51 Ohms ±5% 0.1W, 1/10W Chip Resistor 0402 (1005 Metric) Automotive AEC-Q200 Thick Film; Manufacturer 1: Panasonic Electronic Components; Manufacturer Part Number 1: ERJ-2GEJ510X; VALUE: 51R
footprint SMD_0402
pins: 1, 2

## RES SMD 51R 5% 1/16W 0402
designator R?, comment 51R
51 Ohms ±5% 0.063W, 1/16W Chip Resistor 0402 (1005 Metric) Moisture Resistant Thick Film; Manufacturer 1: Yageo; Manufacturer Part Number 1: RC0402JR-0751RL; VALUE: 51R
footprint SMD_0402
pins: 1, 2

## RES SMD 52K3R 1% 1/10W 0603
designator R?, comment 52K3
52.3 kOhms ±1% 0.1W, 1/10W Chip Resistor 0603 (1608 Metric) Moisture Resistant Thick Film; Manufacturer 1: Yageo; Part Number 1: RC0603FR-0752K3L; VALUE: 52.3K
footprint SMD_0603 (General SMD 0603 footprint)
pins: 1, 2

## RES SMD 56K OHM 0.1% 1/10W 0603
designator R?, comment value 56k  (hidden comment: 56kR)
PartNumber1: ERA-3AEB563V
footprint SMD_0603 (General SMD 0603 footprint)
pins: 1, 2

## RES SMD 57K6R 1% 1/10W 0603
designator R?, comment 57K6R
57.6 kOhms ±1% 0.1W, 1/10W Chip Resistor 0603 (1608 Metric) Automotive AEC-Q200 Thick Film; Manufacturer 1: Panasonic Electronic Components; Manufacturer Part Number 1: ERJ-3EKF5762V; VALUE: 57K6R 1%
footprint SMD_0603 (General SMD 0603 footprint)
pins: 1, 2

## RES SMD 60R4 1% 1/4W 1206
designator R?, comment 60R4
60.4 Ohms ±1% 0.25W, 1/4W Chip Resistor 1206 (3216 Metric) Automotive AEC-Q200 Thick Film; Manufacturer Part Number 1: ERJ-8ENF60R4V; Manufacturer 1: Panasonic Electronic Components; VALUE: 60R4 1%
footprint SMD_1206 (General SMD 1206 footprint)
pins: 1, 2

## RES SMD 61K9R 1% 1/10W 0603
designator R?, comment 61K9
61.9 kOhms ±1% 0.1W, 1/10W Chip Resistor 0603 (1608 Metric) Automotive AEC-Q200 Thick Film; Manufacturer Part Number 1: ERJ-3EKF6192V; Manufacturer 1: Panasonic Electronic Components
footprint SMD_0603 (General SMD 0603 footprint)
pins: 1, 2

## RES SMD 66K5R 1% 1/4W 1206
designator R?, comment 66K5
66.5 kOhms ±1% 0.25W, 1/4W Chip Resistor 1206 (3216 Metric) Automotive AEC-Q200 Thick Film; Manufacturer 1: Panasonic Electronic Components; Manufacturer Part Number 1: ERJ-8ENF6652V
footprint SMD_1206 (General SMD 1206 footprint)
pins: 1, 2

## RES SMD 68KR 0.1% 1/10W 0603
designator R?, comment value 68k  (hidden comment: 68kR)
68 kOhms ±0.1% 0.1W, 1/10W Chip Resistor 0603 (1608 Metric) Automotive AEC-Q200 Thin Film; Part Number 1: ERA-3AEB683V; Manufacturer 1: Panasonic Electronic Components
footprint SMD_0603 (General SMD 0603 footprint)
pins: 1, 2

## RES SMD 71K5R 1% 1/10W 0603
designator R?, comment 71K5
71.5 kOhms ±1% 0.1W, 1/10W Chip Resistor 0603 (1608 Metric) Automotive AEC-Q200 Thick Film; Manufacturer 1: Vishay Dale; vishay: CRCW060371K5FKEA; Manufacturer Part Number 1: CRCW060371K5FKEA
footprint SMD_0603 (General SMD 0603 footprint)
pins: 1, 2

## RES SMD 82KR 1% 1/16W 0402
designator R?, comment 82k
82 kOhms ±1% 0.063W, 1/16W Chip Resistor 0402 (1005 Metric) Moisture Resistant Thick Film; Part Number 1: RC0402FR-0782KL; Manufacturer 1: Yageo; Value: 82k
footprint SMD_0402
pins: 1, 2

## RES SMD 91KR 1% 1/16W 0402
designator R?, comment 91k
91 kOhms ±1% 0.063W, 1/16W Chip Resistor 0402 (1005 Metric) Moisture Resistant Thick Film; Part Number 1: RC0402FR-0791KL; Manufacturer 1: Yageo; Value: 91k
footprint SMD_0402
pins: 1, 2

## RES SMD 100 OHM 1% 1/16W 0402
designator R?, comment 100R
PartNumber1: RC0402FR-07100RL; Value: 100R
footprint SMD_0402
pins: 1, 2

## RES SMD 100K OHM 0.1% 1/10W 0603
designator R?, comment value 100k  (hidden comment: 100kR)
PartNumber1: RT0603BRD07390KL
footprint smd_0603 (General SMD 0603 footprint)
pins: 1, 2

## RES SMD 100K OHM 1% 1/16W 0402
designator R?  value 100k
PartNumber1: RMCF0402FT100K
footprint SMD_0402
pins: 1, 2

## RES SMD 100KR 1% 1/10W 0603
designator R?, comment 100K
100 kOhms ±1% 0.1W, 1/10W Chip Resistor 0603 (1608 Metric)  Thick Film; Part Number 1: CRG0603F100K; Manufacturer 1: TE Connectivity Passive Product
footprint SMD_0603 (General SMD 0603 footprint)
pins: 1, 2

## RES SMD 100KR 1% 1/16W 0402
designator R?, comment 100KR
100 kOhms ±1% 0.063W, 1/16W Chip Resistor 0402 (1005 Metric) Automotive AEC-Q200 Thick Film; Manufacturer 1: Stackpole Electronics Inc; Manufacturer Part Number 1: RMCF0402FT100K; VALUE: 100K
footprint SMD_0402
pins: 1, 2

## RES SMD 100KR 5% 1/5W 0402
designator R?, comment 100K
100 kOhms ±5% 0.2W, 1/5W Chip Resistor 0402 (1005 Metric) Automotive AEC-Q200, Pulse Withstanding Thick Film; Manufacturer 1: Vishay Dale; Manufacturer Part Number 1: CRCW0402100KJNEDHP
footprint SMD_0402
pins: 1, 2

## RES SMD 100KR 5% 1/10W 0402
designator R?, comment 100K
100 kOhms ±5% 0.1W, 1/10W Chip Resistor 0402 (1005 Metric) Automotive AEC-Q200 Thick Film; Manufacturer 1: Panasonic Electronic Components; Manufacturer Part Number 1: ERJ-2GEJ104X
footprint SMD_0402
pins: 1, 2

## RES SMD 100KR 5% 1/16W 0402
designator R?, comment 100K
100 kOhms ±5% 0.063W, 1/16W Chip Resistor 0402 (1005 Metric) Automotive AEC-Q200 Thick Film; Manufacturer Part Number 1: RMCF0402JT100K; Manufacturer 1: Stackpole Electronics Inc
footprint SMD_0402
pins: 1, 2

## RES SMD 100R 0.1% 1/16W 0603
designator R?, comment 100R
100 Ohms ±0.1% 0.063W, 1/16W Chip Resistor 0603 (1608 Metric)  Thin Film; Manufacturer 1: TE Connectivity Passive Product; Manufacturer Part Number 1: CPF0603B100RE1; VALUE: 100R
footprint SMD_0603 (General SMD 0603 footprint)
pins: 1, 2

## RES SMD 105KR 1% 1/10W 0603
designator R?, comment 105K
105 kOhms ±1% 0.1W, 1/10W Chip Resistor 0603 (1608 Metric) Automotive AEC-Q200 Thick Film; Manufacturer 1: Vishay Dale; Manufacturer Part Number 1: CRCW0603105KFKEA
footprint SMD_0603 (General SMD 0603 footprint)
pins: 1, 2

## RES SMD 120KR 1% 1/10W 0603
designator R?, comment 120K
120 kOhms ±1% 0.1W, 1/10W Chip Resistor 0603 (1608 Metric)  Thin Film; Manufacturer Part Number 1: RT0603FRE07120KL; Manufacturer 1: Yageo
footprint SMD_0603 (General SMD 0603 footprint)
pins: 1, 2

## RES SMD 120R 1% 1/4W 1206
designator R?, comment 120R
120 Ohms ±1% 0.25W, 1/4W Chip Resistor 1206 (3216 Metric) Automotive AEC-Q200 Thick Film; Manufacturer Part Number 1: ERJ-8ENF1200V; Manufacturer 1: Panasonic Electronic Components
footprint SMD_1206 (General SMD 1206 footprint)
pins: 1, 2

## RES SMD 120R 1% 1/8W 0805
designator R?, comment 120R
120 Ohms ±1% 0.125W, 1/8W Chip Resistor 0805 (2012 Metric) Automotive AEC-Q200 Thick Film; Manufacturer 1: Panasonic Electronic Components; Part Number 1: ERJ-6ENF1200V
footprint SMD_0805 (Generic 0805 SMD footprint)
pins: 1, 2

## RES SMD 120R 5% 2/3W 1206
designator R?, comment 120R
120 Ohms ±5% 0.667W, 2/3W Chip Resistor 1206 (3216 Metric) Automotive AEC-Q200, Pulse Withstanding Thick Film; Manufacturer 1: Panasonic Electronic Components; Manufacturer Part Number 1: ERJ-P08J121V
footprint SMD_1206 (General SMD 1206 footprint)
pins: 1, 2

## RES SMD 130 OHM 1% 1/16W 0402
designator R?, comment 130R
PartNumber1: RMCF0402FT130R; Value: 130R
footprint SMD_0402
pins: 1, 2

## RES SMD 130R 1% 1/4W 1206
designator R?, comment 130R
130 Ohms ±1% 0.25W, 1/4W Chip Resistor 1206 (3216 Metric) Automotive AEC-Q200 Thick Film; Manufacturer 1: Panasonic Electronic Components; Manufacturer Part Number 1: ERJ-8ENF1300V
footprint SMD_1206 (General SMD 1206 footprint)
pins: 1, 2

## RES SMD 150K OHM 0.1% 1/10W 0603
designator R?, comment value 150k  (hidden comment: 150kR)
PartNumber1: ERA-3AEB154V
footprint SMD_0603 (General SMD 0603 footprint)
pins: 1, 2

## RES SMD 150K OHM 1% 1/10W 0402
designator R?, comment 150k
PartNumber1: MCS04020C1503FE000; Value: 150k
footprint SMD_0402
pins: 1, 2

## RES SMD 150R 1% 1/10W 0603
designator R?, comment 150R
150 Ohms ±1% 0.1W, 1/10W Chip Resistor 0603 (1608 Metric) Automotive AEC-Q200 Thick Film; Manufacturer 1: Panasonic Electronic Components; Manufacturer Part Number 1: ERJ-3EKF1500V
footprint SMD_0603 (General SMD 0603 footprint)
pins: 1, 2

## RES SMD 180 OHM 1% 1/16W 0402
designator R?, comment 180R
PartNumber1: RMCF0402FT1M80; Value: 180R
footprint SMD_0402
pins: 1, 2

## RES SMD 180K OHM 1% 1/16W 0402
designator R?, comment 180k
PartNumber1: RC0402FR-07360KL; Value: 180k
footprint SMD_0402
pins: 1, 2

## RES SMD 180R 1% 1/8W 0805
designator R?, comment 180R
180 Ohms ±1% 0.125W, 1/8W Chip Resistor 0805 (2012 Metric) Automotive AEC-Q200 Thick Film; Manufacturer 1: Panasonic Electronic Components; VALUE: 180R 1%; Supplier Part Number 1: P180CTR-ND
footprint SMD_0805 (Generic 0805 SMD footprint)
pins: 1, 2

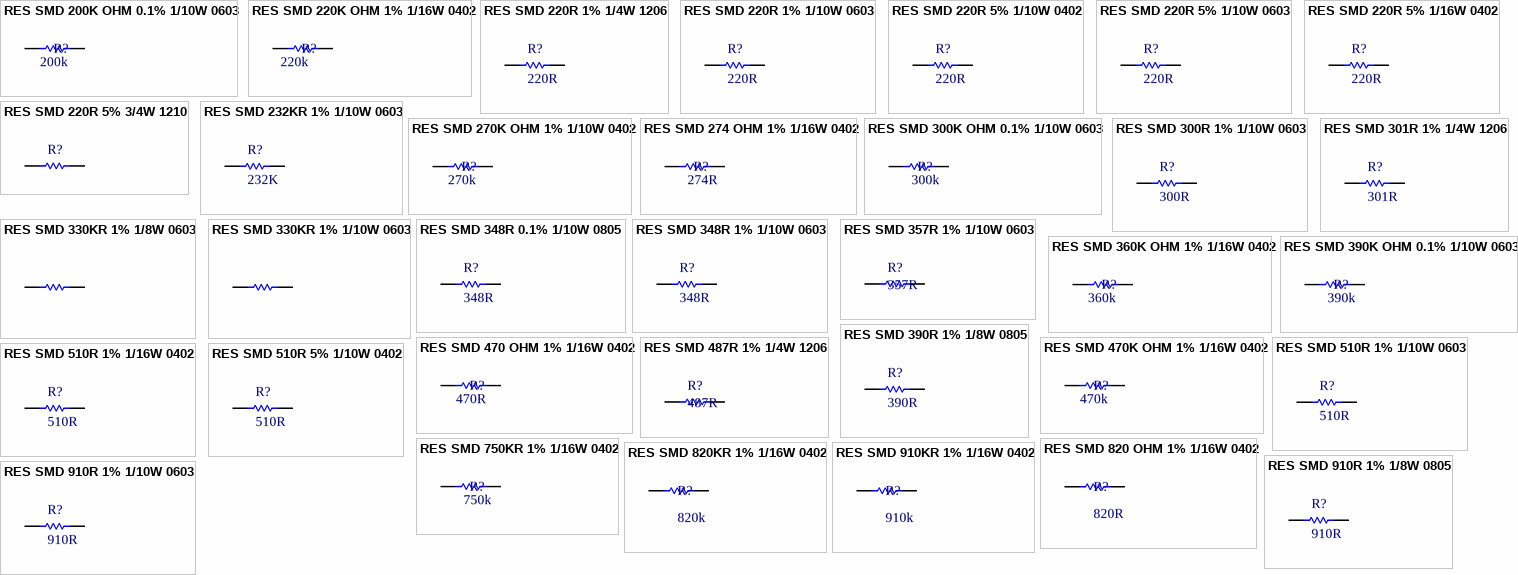
[diagram p3: symbols RES SMD 200K OHM 0.1% 1/10W 0603 to RES SMD 910R 1% 1/10W 0603]

## RES SMD 200K OHM 0.1% 1/10W 0603
designator R?, comment value 200k  (hidden comment: 200kR)
PartNumber1: ERA-3AEB204V
footprint SMD_0603 (General SMD 0603 footprint)
pins: 1, 2

## RES SMD 220K OHM 1% 1/16W 0402
designator R?, comment 220k
PartNumber1: RC0402FR-07220KL; Value: 220k
footprint SMD_0402
pins: 1, 2

## RES SMD 220R 1% 1/4W 1206
designator R?, comment 220R
220 Ohms ±1% 0.25W, 1/4W Chip Resistor 1206 (3216 Metric) Automotive AEC-Q200, Moisture Resistant Thick Film; Manufacturer Part Number 1: AC1206FR-07220RL; Manufacturer 1: Yageo; VALUE: 220R 1%
footprint SMD_1206 (General SMD 1206 footprint)
pins: 1, 2

## RES SMD 220R 1% 1/10W 0603
designator R?, comment 220R
220 Ohms ±1% 0.1W, 1/10W Chip Resistor 0603 (1608 Metric) Automotive AEC-Q200 Thick Film; Manufacturer 1: Stackpole Electronics Inc; Manufacturer Part Number 1: RMCF0603FT220R
footprint SMD_0603 (General SMD 0603 footprint)
pins: 1, 2

## RES SMD 220R 5% 1/10W 0402
designator R?, comment 220R
220 Ohms ±5% 0.1W, 1/10W Chip Resistor 0402 (1005 Metric) Automotive AEC-Q200 Thick Film; Manufacturer 1: Panasonic Electronic Components; Manufacturer Part Number 1: ERJ-2GEJ221X; VALUE: 220R
footprint SMD_0402
pins: 1, 2

## RES SMD 220R 5% 1/10W 0603
designator R?, comment 220R
220 Ohms ±5% 0.1W, 1/10W Chip Resistor 0603 (1608 Metric) Automotive AEC-Q200 Thick Film; Manufacturer 1: Panasonic Electronic Components; Manufacturer Part Number 1: ERJ-3GEYJ221V
footprint SMD_0603 (General SMD 0603 footprint)
pins: 1, 2

## RES SMD 220R 5% 1/16W 0402
designator R?, comment 220R
220 Ohms ±5% 0.063W, 1/16W Chip Resistor 0402 (1005 Metric) Moisture Resistant Thick Film; Manufacturer Part Number 1: RC0402JR-07220RL; Manufacturer 1: Yageo; VALUE: 220R
footprint SMD_0402
pins: 1, 2

## RES SMD 220R 5% 3/4W 1210
designator R?, comment 220R  (value not drawn)
220 Ohms ±5% 0.75W, 3/4W Chip Resistor 1210 (3225 Metric) Automotive AEC-Q200, Pulse Withstanding Thick Film; Manufacturer Part Number 1: CRCW1210220RJNEAHP; Manufacturer 1: Vishay Dale
footprint SMD_1206 (General SMD 1206 footprint)
pins: 1, 2

## RES SMD 232KR 1% 1/10W 0603
designator R?, comment 232K
232 kOhms ±1% 0.1W, 1/10W Chip Resistor 0603 (1608 Metric) Moisture Resistant Thick Film; Manufacturer 1: Yageo; Manufacturer Part Number 1: RC0603FR-07232KL
footprint SMD_0603 (General SMD 0603 footprint)
pins: 1, 2

## RES SMD 270K OHM 1% 1/10W 0402
designator R?, comment 270k
PartNumber1: ERJ-2RKF2703X; Value: 270k
footprint SMD_0402
pins: 1, 2

## RES SMD 274 OHM 1% 1/16W 0402
designator R?, comment 274R
274 Ohms ±1% 0.063W, 1/16W Chip Resistor 0402 (1005 Metric) Moisture Resistant Thick Film; PartNumber1: RC0402FR-07274RL; Value: 274R
footprint SMD_0402
pins: 1, 2

## RES SMD 300K OHM 0.1% 1/10W 0603
designator R?, comment value 300k  (hidden comment: 300kR)
PartNumber1: ERA-3AEB304V
footprint smd_0603 (General SMD 0603 footprint)
pins: 1, 2

## RES SMD 300R 1% 1/10W 0603
designator R?, comment 300R
300 Ohms ±1% 0.1W, 1/10W Chip Resistor 0603 (1608 Metric) Automotive AEC-Q200 Thick Film; Manufacturer 1: Panasonic Electronic Components; Manufacturer Part Number 1: ERJ-3EKF3000V
footprint SMD_0603 (General SMD 0603 footprint)
pins: 1, 2

## RES SMD 301R 1% 1/4W 1206
designator R?, comment 301R
301 Ohms ±1% 0.25W, 1/4W Chip Resistor 1206 (3216 Metric) Automotive AEC-Q200 Thick Film; Manufacturer 1: Panasonic Electronic Components; Manufacturer Part Number 1: ERJ-8ENF3010V
footprint SMD_1206 (General SMD 1206 footprint)
pins: 1, 2

## RES SMD 330KR 1% 1/8W 0603
designator R?, comment 330K
330 kOhms ±1% 0.125W, 1/8W Chip Resistor 0603 (1608 Metric) Anti-Sulfur Thin Film; Manufacturer 1: Vishay Beyschlag; Manufacturer Part Number 1: MCT06030C3303FP500
footprint SMD_0603 (General SMD 0603 footprint)
pins: 1, 2

## RES SMD 330KR 1% 1/10W 0603
designator R?, comment 330K
330 kOhms ±1% 0.1W, 1/10W Chip Resistor 0603 (1608 Metric) Automotive AEC-Q200, Moisture Resistant Thick Film; Manufacturer 1: TE Connectivity Passive Product; Manufacturer Part Number 1: CRGCQ0603F330K
footprint SMD_0603 (General SMD 0603 footprint)
pins: 1, 2

## RES SMD 348R 0.1% 1/10W 0805
designator R?, comment 348R
348 Ohms ±0.1% 0.1W, 1/10W Chip Resistor 0805 (2012 Metric)  Thin Film; Manufacturer 1: TE Connectivity Passive Product; Manufacturer Part Number 1: RN73C2A348RBTDF; VALUE: 348R
footprint SMD_0805 (Generic 0805 SMD footprint)
pins: 1, 2

## RES SMD 348R 1% 1/10W 0603
designator R?, comment 348R
348 Ohms ±1% 0.1W, 1/10W Chip Resistor 0603 (1608 Metric) Moisture Resistant Thick Film; Manufacturer 1: Yageo; Manufacturer Part Number 1: RC0603FR-07348RL
footprint SMD_0603 (General SMD 0603 footprint)
pins: 1, 2

## RES SMD 357R 1% 1/10W 0603
designator R?, comment 357R
357 Ohms ±1% 0.1W, 1/10W Chip Resistor 0603 (1608 Metric) Moisture Resistant Thick Film; Manufacturer Part Number 1: RC0603FR-07357RL; Manufacturer 1: Yageo; http://br.mouser.com/Passive-Components/Resistors/_/N-5g9n?P=1z0zlsdZ1z0znqlZ1yzs6iiZ1z0zls5Z1yzvlveZ1z0zls8Z1z0zlfjZ1z0wnw6Z1z0t6ciZ1z0rxo7Z1z0vl7rZ1yzp0shZ1yzp15tZ1yzp0sgZ1yzp0fgZ1z0vkuqZ1yzp15yZ1yzp0ffZ1yzp15xZ1z0vocvZ1z0vocwZ1z0vo2aZ1z0vnvoZ1z0wljoZ1y: LINK
footprint SMD_0603 (General SMD 0603 footprint)
pins: 1, 2

## RES SMD 360K OHM 1% 1/16W 0402
designator R?, comment 360k
PartNumber1: RC0402FR-07360KL; Value: 360k
footprint SMD_0402
pins: 1, 2

## RES SMD 390K OHM 0.1% 1/10W 0603
designator R?, comment value 390k  (hidden comment: 390kR)
PartNumber1: RT0603BRD07390KL
footprint SMD_0603 (General SMD 0603 footprint)
pins: 1, 2

## RES SMD 390R 1% 1/8W 0805
designator R?, comment 390R
390 Ohms ±1% 0.125W, 1/8W Chip Resistor 0805 (2012 Metric) Automotive AEC-Q200 Thick Film; Manufacturer 1: Panasonic Electronic Components; Manufacturer Part Number 1: ERJ-6ENF3900V; VALUE: 390R 1%
footprint SMD_0805 (Generic 0805 SMD footprint)
pins: 1, 2

## RES SMD 470 OHM 1% 1/16W 0402
designator R?, comment 470R
PartNumber1: RC0402FR-07470RL; Value: 470R
footprint SMD_0402
pins: 1, 2

## RES SMD 470K OHM 1% 1/16W 0402
designator R?, comment 470k
PartNumber1: RC0402FR-07470KL; Value: 470k
footprint SMD_0402
pins: 1, 2

## RES SMD 487R 1% 1/4W 1206
designator R?, comment 487R
487 Ohms ±1% 0.25W, 1/4W Chip Resistor 1206 (3216 Metric) Moisture Resistant Thick Film; Manufacturer 1: Yageo; Manufacturer Part Number 1: RC1206FR-07487RL
footprint SMD_1206 (General SMD 1206 footprint)
pins: 1, 2

## RES SMD 510R 1% 1/10W 0603
designator R?, comment 510R
510 Ohms ±1% 0.1W, 1/10W Chip Resistor 0603 (1608 Metric) Automotive AEC-Q200 Thick Film; Part Number 1: ERJ-3EKF5100V; Manufacturer 1: Panasonic Electronic Components; VALUE: 510R
footprint SMD_0603 (General SMD 0603 footprint)
pins: 1, 2

## RES SMD 510R 1% 1/16W 0402
designator R?, comment 510R
510 Ohms ±1% 0.063W, 1/16W Chip Resistor 0402 (1005 Metric) Automotive AEC-Q200 Thick Film; Manufacturer 1: Stackpole Electronics Inc; Manufacturer Part Number 1: RMCF0402FT510R; VALUE: 510R
footprint SMD_0402
pins: 1, 2

## RES SMD 510R 5% 1/10W 0402
designator R?, comment 510R
510 Ohms ±5% 0.1W, 1/10W Chip Resistor 0402 (1005 Metric) Automotive AEC-Q200 Thick Film; Manufacturer 1: Panasonic Electronic Components; Manufacturer Part Number 1: ERJ-2GEJ511X; VALUE: 510R
footprint SMD_0402
pins: 1, 2

## RES SMD 750KR 1% 1/16W 0402
designator R?  value 750k
750 kOhms ±1% 0.063W, 1/16W Chip Resistor 0402 (1005 Metric) Moisture Resistant Thick Film; Part Number 1: RC0402FR-07750KL; Manufacturer 1: Yageo
footprint SMD_0402
pins: 1, 2

## RES SMD 820 OHM 1% 1/16W 0402
designator R?, comment 820R
820 Ohms ±1% 0.063W, 1/16W Chip Resistor 0402 (1005 Metric) Moisture Resistant Thick Film; Part Number 1: RC0402FR-07820RL; Manufacturer 1: Yageo; Value: 820R
footprint SMD_0402
pins: 1, 2

## RES SMD 820KR 1% 1/16W 0402
designator R?, comment 820k
820 kOhms ±1% 0.063W, 1/16W Chip Resistor 0402 (1005 Metric) Moisture Resistant Thick Film; Part Number 1: RC0402FR-07820KL; Manufacturer 1: Yageo; Value: 820k
footprint SMD_0402
pins: 1, 2

## RES SMD 910KR 1% 1/16W 0402
designator R?, comment 910k
910 kOhms ±1% 0.063W, 1/16W Chip Resistor 0402 (1005 Metric) Moisture Resistant Thick Film; Part Number 1: RC0402FR-07910KL; Manufacturer 1: Yageo; Value: 910k
footprint SMD_0402
pins: 1, 2

## RES SMD 910R 1% 1/8W 0805
designator R?, comment 910R
910 Ohms ±1% 0.125W, 1/8W Chip Resistor 0805 (2012 Metric) Automotive AEC-Q200 Thick Film; Manufacturer 1: Stackpole Electronics Inc; Manufacturer Part Number 1: RMCF0805FT910R; VALUE: 910R
footprint SMD_0805 (Generic 0805 SMD footprint)
pins: 1, 2

## RES SMD 910R 1% 1/10W 0603
designator R?, comment 910R
910 Ohms ±1% 0.1W, 1/10W Chip Resistor 0603 (1608 Metric) Automotive AEC-Q200 Thick Film; Manufacturer 1: Vishay Dale; Part Number 1: CRCW0603910RFKEA
footprint SMD_0603 (General SMD 0603 footprint)
pins: 1, 2